# Altium footprint library CAM-M8.PcbLib: 2 footprints
Each footprint in its own frame and in the unit in brackets; x right, y up, seen from the top. Pads: shape width x height; smd on the part's side, far side on the other; paste and mask are expansions set on the pad; w line width, h text height; cw(c..) or ccw(c..) is an arc to the next point about the centre after c.
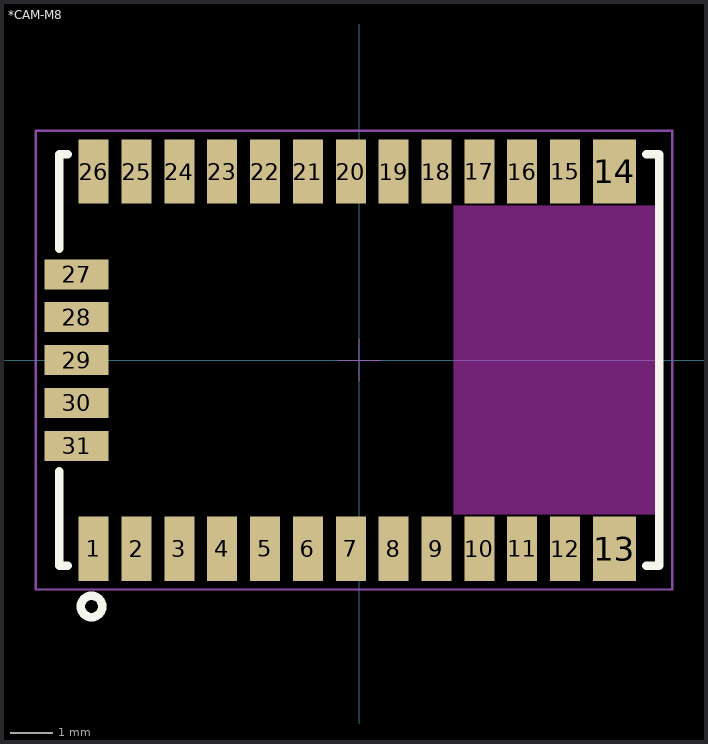
[diagram p0: the footprints below, top view; thin cyan lines are the x and y axes]

## *CAM-M8 [mm]
pads (31):
  rect 0.7x1.5 smd: 1(-6.2,-4.4) 2(-5.2,-4.4) 3(-4.2,-4.4) 4(-3.2,-4.4) 5(-2.2,-4.4) 6(-1.2,-4.4) 7(-0.2,-4.4) 8(0.8,-4.4) 9(1.8,-4.4) 10(2.8,-4.4) 11(3.8,-4.4) 12(4.8,-4.4) 15(4.8,4.4) 16(3.8,4.4) 17(2.8,4.4) 18(1.8,4.4) 19(0.8,4.4) 20(-0.2,4.4) 21(-1.2,4.4) 22(-2.2,4.4) 23(-3.2,4.4) 24(-4.2,4.4) 25(-5.2,4.4) 26(-6.2,4.4)
  rect 1x1.5 smd: 13(5.95,-4.4) 14(5.95,4.4)
  rect 1.5x0.7 smd: 27(-6.6,2) 28(-6.6,1) 29(-6.6,0) 30(-6.6,-1) 31(-6.6,-2)
Top Overlay:
  lines w0.2: -7,-2.6 -7,-4.8 -6.8,-4.8 ; -7,2.6 -7,4.8 -6.8,4.8 ; 6.7,-4.8 7,-4.8 7,4.8 6.7,4.8 ; -6.5,-5.75 cw(c-6.25,-5.75) -6.25,-5.5 cw(c-6.25,-5.75) -6,-5.75 cw(c-6.25,-5.75) -6.25,-6 cw(c-6.25,-5.75) -6.5,-5.75
Top Solder:
  lines w0.2: -7.2,-4 -7.2,-5 -6.8,-5 ; 6.7,5 7.2,5 7.2,4
Keep-Out Layer:
  region: 2.2,-3.6 2.2,3.6 7,3.6 7,-3.6
  region: 2.2,-3.6 7,-3.6 7,3.6 2.2,3.6
  region: 2.2,-3.6 2.2,3.6 7,3.6 7,-3.6
  region: 2.2,-3.6 7,-3.6 7,3.6 2.2,3.6
  region: 2.2,-3.6 2.2,3.6 7,3.6 7,-3.6
  region: 2.2,-3.6 7,-3.6 7,3.6 2.2,3.6
Mechanical 4:
  lines w0.025: -0.5,0 0.5,0 -0.5,0 ; 0,-0.5 0,0.5 0,-0.5
Mechanical 16:
  lines w0.05: -7.55,-5.35 7.3,-5.35 7.3,5.35 -7.55,5.35 -7.55,-5.35

## PCBComponent_1 [mm]